# Altium footprint library WP-SMBU.PcbLib: 22 footprints (part 1 of 2)
Each footprint in its own frame and in the unit in brackets; x right, y up, seen from the top. Pads: shape width x height; smd on the part's side, far side on the other; paste and mask are expansions set on the pad; w line width, h text height; cw(c..) or ccw(c..) is an arc to the next point about the centre after c.
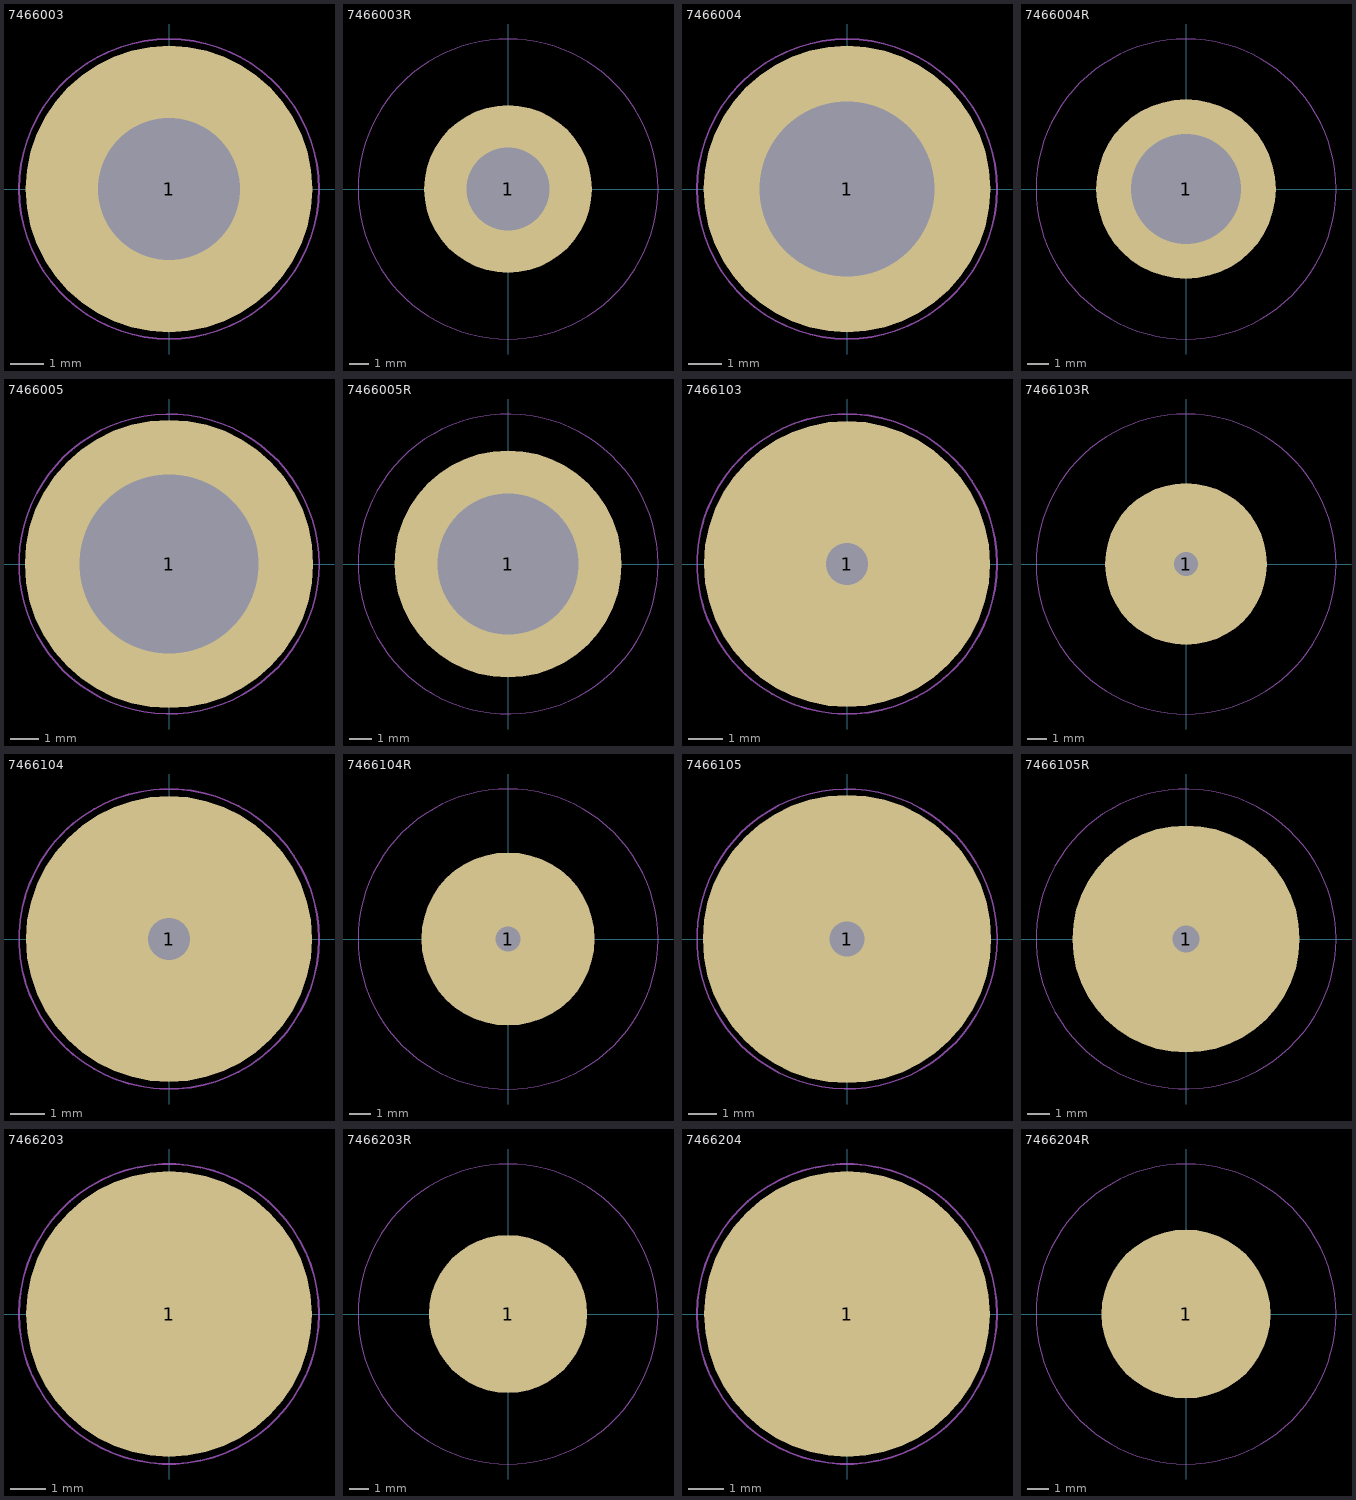
[diagram p0: the footprints below, top view; thin cyan lines are the x and y axes]

## 7466003 [mm] "SMD with internal through-hole thread, M3-6mm"
height 5
pads (1):
  round 8.5 / inner round 0 / far side round 0 hole 4.2 unplated: 1(0,0)
Top Paste:
  region: 0.5,4.119 0.5,2.193 0.501,2.193 0.654,2.153 0.948,2.04 1.224,1.888 1.476,1.698 1.699,1.475 1.888,1.223 2.041,0.947 2.153,0.653 2.194,0.5 4.12,0.5 4.092,0.728 3.986,1.176 3.832,1.61 3.63,2.023 3.384,2.412 3.097,2.771 2.771,3.097 2.412,3.384 2.023,3.63 1.61,3.832 1.176,3.986 0.728,4.092
  region: 4.119,-0.5 2.193,-0.5 2.193,-0.501 2.153,-0.654 2.04,-0.948 1.888,-1.224 1.698,-1.476 1.475,-1.699 1.223,-1.888 0.947,-2.041 0.653,-2.153 0.5,-2.194 0.5,-4.12 0.728,-4.092 1.176,-3.986 1.61,-3.832 2.023,-3.63 2.412,-3.384 2.771,-3.097 3.097,-2.771 3.384,-2.412 3.63,-2.023 3.832,-1.61 3.986,-1.176 4.092,-0.728
  region: -0.5,-4.119 -0.5,-2.193 -0.501,-2.193 -0.654,-2.153 -0.948,-2.04 -1.224,-1.888 -1.476,-1.698 -1.699,-1.475 -1.888,-1.223 -2.041,-0.947 -2.153,-0.653 -2.194,-0.5 -4.12,-0.5 -4.092,-0.728 -3.986,-1.176 -3.832,-1.61 -3.63,-2.023 -3.384,-2.412 -3.097,-2.771 -2.771,-3.097 -2.412,-3.384 -2.023,-3.63 -1.61,-3.832 -1.176,-3.986 -0.728,-4.092
  region: -4.119,0.5 -2.193,0.5 -2.193,0.501 -2.153,0.654 -2.04,0.948 -1.888,1.224 -1.698,1.476 -1.475,1.699 -1.223,1.888 -0.947,2.041 -0.653,2.153 -0.5,2.194 -0.5,4.12 -0.728,4.092 -1.176,3.986 -1.61,3.832 -2.023,3.63 -2.412,3.384 -2.771,3.097 -3.097,2.771 -3.384,2.412 -3.63,2.023 -3.832,1.61 -3.986,1.176 -4.092,0.728
Top Component Outline:
  circle w0.1: c0,0 r3.5
Top Designator:
  text ".Designator" at -3.647,-0.357 h1
Top 3D Body:
  circle w0.1: c0,0 r3.5
Top Courtyard:
  circle w0.05: c0,0 r4.45
Top Component Center:
  lines w0.1: -0.5,0 0.5,0 ; 0,-0.5 0,0.5
3D body "7466003.stp": height 5, standoff -1, extent -3.5,-3.5 3.5,3.497

## 7466003R [mm] "SMD with internal through-hole thread, M3-6mm"
height 5
pads (1):
  round 8.5 / inner round 0 / far side round 0 hole 4.2 unplated: 1(0,0)
Top Paste:
  region: -4.119,0.5 -2.193,0.5 -2.193,0.501 -2.153,0.654 -2.04,0.948 -1.888,1.224 -1.698,1.476 -1.475,1.699 -1.223,1.888 -0.947,2.041 -0.653,2.153 -0.5,2.194 -0.5,4.12 -0.728,4.092 -1.176,3.986 -1.61,3.832 -2.023,3.63 -2.412,3.384 -2.771,3.097 -3.097,2.771 -3.384,2.412 -3.63,2.023 -3.832,1.61 -3.986,1.176 -4.092,0.728
  region: -0.5,-4.119 -0.5,-2.193 -0.501,-2.193 -0.654,-2.153 -0.948,-2.04 -1.224,-1.888 -1.476,-1.698 -1.699,-1.475 -1.888,-1.223 -2.041,-0.947 -2.153,-0.653 -2.194,-0.5 -4.12,-0.5 -4.092,-0.728 -3.986,-1.176 -3.832,-1.61 -3.63,-2.023 -3.384,-2.412 -3.097,-2.771 -2.771,-3.097 -2.412,-3.384 -2.023,-3.63 -1.61,-3.832 -1.176,-3.986 -0.728,-4.092
  region: 4.119,-0.5 2.193,-0.5 2.193,-0.501 2.153,-0.654 2.04,-0.948 1.888,-1.224 1.698,-1.476 1.475,-1.699 1.223,-1.888 0.947,-2.041 0.653,-2.153 0.5,-2.194 0.5,-4.12 0.728,-4.092 1.176,-3.986 1.61,-3.832 2.023,-3.63 2.412,-3.384 2.771,-3.097 3.097,-2.771 3.384,-2.412 3.63,-2.023 3.832,-1.61 3.986,-1.176 4.092,-0.728
  region: 0.5,4.119 0.5,2.193 0.501,2.193 0.654,2.153 0.948,2.04 1.224,1.888 1.476,1.698 1.699,1.475 1.888,1.223 2.041,0.947 2.153,0.653 2.194,0.5 4.12,0.5 4.092,0.728 3.986,1.176 3.832,1.61 3.63,2.023 3.384,2.412 3.097,2.771 2.771,3.097 2.412,3.384 2.023,3.63 1.61,3.832 1.176,3.986 0.728,4.092
Top Component Outline:
  circle w0.1: c0,0 r3.5
Top Designator:
  text ".Designator" at -3.647,-0.357 h1
Top 3D Body:
  circle w0.1: c0,0 r3.5
Top Courtyard:
  circle w0.05: c0,0 r7.6
Top Component Center:
  lines w0.1: -0.5,0 0.5,0 ; 0,-0.5 0,0.5
3D body "7466003.stp": height 5, standoff -1, extent -3.5,-3.5 3.5,3.497

## 7466004 [mm] "SMD with internal through-hole thread, M4-6mm"
height 5
pads (1):
  round 8.5 / inner round 0 / far side round 0 hole 5.2 unplated: 1(0,0)
Top Paste:
  region: -4.12,0.5 -2.704,0.5 -2.704,0.501 -2.659,0.703 -2.523,1.094 -2.33,1.46 -2.085,1.793 -1.792,2.086 -1.459,2.331 -1.093,2.523 -0.702,2.659 -0.5,2.704 -0.5,4.12 -0.728,4.092 -1.176,3.986 -1.61,3.832 -2.023,3.631 -2.412,3.385 -2.772,3.097 -3.097,2.772 -3.385,2.412 -3.631,2.023 -3.832,1.61 -3.986,1.176 -4.092,0.728
  region: -0.5,-4.12 -0.5,-2.704 -0.501,-2.704 -0.703,-2.659 -1.094,-2.523 -1.46,-2.33 -1.793,-2.085 -2.086,-1.792 -2.331,-1.459 -2.523,-1.093 -2.659,-0.702 -2.704,-0.5 -4.12,-0.5 -4.092,-0.728 -3.986,-1.176 -3.832,-1.61 -3.631,-2.023 -3.385,-2.412 -3.097,-2.772 -2.772,-3.097 -2.412,-3.385 -2.023,-3.631 -1.61,-3.832 -1.176,-3.986 -0.728,-4.092
  region: 4.12,-0.5 2.704,-0.5 2.704,-0.501 2.659,-0.703 2.523,-1.094 2.33,-1.46 2.085,-1.793 1.792,-2.086 1.459,-2.331 1.093,-2.523 0.702,-2.659 0.5,-2.704 0.5,-4.12 0.728,-4.092 1.176,-3.986 1.61,-3.832 2.023,-3.631 2.412,-3.385 2.772,-3.097 3.097,-2.772 3.385,-2.412 3.631,-2.023 3.832,-1.61 3.986,-1.176 4.092,-0.728
  region: 0.5,4.12 0.5,2.704 0.501,2.704 0.703,2.659 1.094,2.523 1.46,2.33 1.793,2.085 2.086,1.792 2.331,1.459 2.523,1.093 2.659,0.702 2.704,0.5 4.12,0.5 4.092,0.728 3.986,1.176 3.832,1.61 3.631,2.023 3.385,2.412 3.097,2.772 2.772,3.097 2.412,3.385 2.023,3.631 1.61,3.832 1.176,3.986 0.728,4.092
Top Component Outline:
  circle w0.1: c0,0 r3.5
Top Designator:
  text ".Designator" at -3.647,-0.357 h1
Top 3D Body:
  circle w0.1: c0,0 r3.5
Top Courtyard:
  circle w0.05: c0,0 r4.45
Top Component Center:
  lines w0.1: -0.5,0 0.5,0 ; 0,-0.5 0,0.5
3D body "7466004.stp": height 5, standoff -1, extent -3.5,-3.493 3.473,3.493

## 7466004R [mm] "SMD with internal through-hole thread, M4-6mm"
height 5
pads (1):
  round 8.5 / inner round 0 / far side round 0 hole 5.2 unplated: 1(0,0)
Top Paste:
  region: 0.5,4.12 0.5,2.704 0.501,2.704 0.703,2.659 1.094,2.523 1.46,2.33 1.793,2.085 2.086,1.792 2.331,1.459 2.523,1.093 2.659,0.702 2.704,0.5 4.12,0.5 4.092,0.728 3.986,1.176 3.832,1.61 3.631,2.023 3.385,2.412 3.097,2.772 2.772,3.097 2.412,3.385 2.023,3.631 1.61,3.832 1.176,3.986 0.728,4.092
  region: 4.12,-0.5 2.704,-0.5 2.704,-0.501 2.659,-0.703 2.523,-1.094 2.33,-1.46 2.085,-1.793 1.792,-2.086 1.459,-2.331 1.093,-2.523 0.702,-2.659 0.5,-2.704 0.5,-4.12 0.728,-4.092 1.176,-3.986 1.61,-3.832 2.023,-3.631 2.412,-3.385 2.772,-3.097 3.097,-2.772 3.385,-2.412 3.631,-2.023 3.832,-1.61 3.986,-1.176 4.092,-0.728
  region: -0.5,-4.12 -0.5,-2.704 -0.501,-2.704 -0.703,-2.659 -1.094,-2.523 -1.46,-2.33 -1.793,-2.085 -2.086,-1.792 -2.331,-1.459 -2.523,-1.093 -2.659,-0.702 -2.704,-0.5 -4.12,-0.5 -4.092,-0.728 -3.986,-1.176 -3.832,-1.61 -3.631,-2.023 -3.385,-2.412 -3.097,-2.772 -2.772,-3.097 -2.412,-3.385 -2.023,-3.631 -1.61,-3.832 -1.176,-3.986 -0.728,-4.092
  region: -4.12,0.5 -2.704,0.5 -2.704,0.501 -2.659,0.703 -2.523,1.094 -2.33,1.46 -2.085,1.793 -1.792,2.086 -1.459,2.331 -1.093,2.523 -0.702,2.659 -0.5,2.704 -0.5,4.12 -0.728,4.092 -1.176,3.986 -1.61,3.832 -2.023,3.631 -2.412,3.385 -2.772,3.097 -3.097,2.772 -3.385,2.412 -3.631,2.023 -3.832,1.61 -3.986,1.176 -4.092,0.728
Top Component Outline:
  circle w0.1: c0,0 r3.5
Top Designator:
  text ".Designator" at -3.647,-0.357 h1
Top 3D Body:
  circle w0.1: c0,0 r3.5
Top Courtyard:
  circle w0.05: c0,0 r7.1
Top Component Center:
  lines w0.1: -0.5,0 0.5,0 ; 0,-0.5 0,0.5
3D body "7466004.stp": height 5, standoff -1, extent -3.5,-3.493 3.473,3.493

## 7466005 [mm] "SMD with internal through-hole thread, M5-6mm"
height 5
pads (1):
  round 10 / inner round 0 / far side round 0 hole 6.2 unplated: 1(0,0)
Top Paste:
  region: -4.874,0.5 -3.211,0.5 -3.211,0.502 -3.162,0.753 -3.004,1.24 -2.772,1.696 -2.471,2.111 -2.109,2.473 -1.695,2.773 -1.238,3.005 -0.751,3.162 -0.5,3.211 -0.5,4.874 -0.778,4.846 -1.323,4.726 -1.852,4.545 -2.356,4.305 -2.83,4.01 -3.267,3.662 -3.662,3.267 -4.01,2.83 -4.305,2.356 -4.545,1.852 -4.726,1.323 -4.846,0.778
  region: -0.5,-4.874 -0.5,-3.211 -0.502,-3.211 -0.753,-3.162 -1.24,-3.004 -1.696,-2.772 -2.111,-2.471 -2.473,-2.109 -2.773,-1.695 -3.005,-1.238 -3.162,-0.751 -3.211,-0.5 -4.874,-0.5 -4.846,-0.778 -4.726,-1.323 -4.545,-1.852 -4.305,-2.356 -4.01,-2.83 -3.662,-3.267 -3.267,-3.662 -2.83,-4.01 -2.356,-4.305 -1.852,-4.545 -1.323,-4.726 -0.778,-4.846
  region: 4.874,-0.5 3.211,-0.5 3.211,-0.502 3.162,-0.753 3.004,-1.24 2.772,-1.696 2.471,-2.111 2.109,-2.473 1.695,-2.773 1.238,-3.005 0.751,-3.162 0.5,-3.211 0.5,-4.874 0.778,-4.846 1.323,-4.726 1.852,-4.545 2.356,-4.305 2.83,-4.01 3.267,-3.662 3.662,-3.267 4.01,-2.83 4.305,-2.356 4.545,-1.852 4.726,-1.323 4.846,-0.778
  region: 0.5,4.874 0.5,3.211 0.502,3.211 0.753,3.162 1.24,3.004 1.696,2.772 2.111,2.471 2.473,2.109 2.773,1.695 3.005,1.238 3.162,0.751 3.211,0.5 4.874,0.5 4.846,0.778 4.726,1.323 4.545,1.852 4.305,2.356 4.01,2.83 3.662,3.267 3.267,3.662 2.83,4.01 2.356,4.305 1.852,4.545 1.323,4.726 0.778,4.846
Top Component Outline:
  circle w0.1: c0,0 r4.5
Top Designator:
  text ".Designator" at -3.647,-0.357 h1
Top 3D Body:
  circle w0.1: c0,0 r4.5
Top Courtyard:
  circle w0.05: c0,0 r5.2
Top Component Center:
  lines w0.1: -0.5,0 0.5,0 ; 0,-0.5 0,0.5
3D body "7466005.stp": height 5, standoff -1, extent -4.5,-4.491 4.465,4.491

## 7466005R [mm] "SMD with internal through-hole thread, M5-6mm"
height 5
pads (1):
  round 10 / inner round 0 / far side round 0 hole 6.2 unplated: 1(0,0)
Top Paste:
  region: -4.874,0.5 -3.211,0.5 -3.211,0.502 -3.162,0.753 -3.004,1.24 -2.772,1.696 -2.471,2.111 -2.109,2.473 -1.695,2.773 -1.238,3.005 -0.751,3.162 -0.5,3.211 -0.5,4.874 -0.778,4.846 -1.323,4.726 -1.852,4.545 -2.356,4.305 -2.83,4.01 -3.267,3.662 -3.662,3.267 -4.01,2.83 -4.305,2.356 -4.545,1.852 -4.726,1.323 -4.846,0.778
  region: -0.5,-4.874 -0.5,-3.211 -0.502,-3.211 -0.753,-3.162 -1.24,-3.004 -1.696,-2.772 -2.111,-2.471 -2.473,-2.109 -2.773,-1.695 -3.005,-1.238 -3.162,-0.751 -3.211,-0.5 -4.874,-0.5 -4.846,-0.778 -4.726,-1.323 -4.545,-1.852 -4.305,-2.356 -4.01,-2.83 -3.662,-3.267 -3.267,-3.662 -2.83,-4.01 -2.356,-4.305 -1.852,-4.545 -1.323,-4.726 -0.778,-4.846
  region: 4.874,-0.5 3.211,-0.5 3.211,-0.502 3.162,-0.753 3.004,-1.24 2.772,-1.696 2.471,-2.111 2.109,-2.473 1.695,-2.773 1.238,-3.005 0.751,-3.162 0.5,-3.211 0.5,-4.874 0.778,-4.846 1.323,-4.726 1.852,-4.545 2.356,-4.305 2.83,-4.01 3.267,-3.662 3.662,-3.267 4.01,-2.83 4.305,-2.356 4.545,-1.852 4.726,-1.323 4.846,-0.778
  region: 0.5,4.874 0.5,3.211 0.502,3.211 0.753,3.162 1.24,3.004 1.696,2.772 2.111,2.471 2.473,2.109 2.773,1.695 3.005,1.238 3.162,0.751 3.211,0.5 4.874,0.5 4.846,0.778 4.726,1.323 4.545,1.852 4.305,2.356 4.01,2.83 3.662,3.267 3.267,3.662 2.83,4.01 2.356,4.305 1.852,4.545 1.323,4.726 0.778,4.846
Top Component Outline:
  circle w0.1: c0,0 r4.5
Top Designator:
  text ".Designator" at -3.647,-0.357 h1
Top 3D Body:
  circle w0.1: c0,0 r4.5
Top Courtyard:
  circle w0.05: c0,0 r6.6
Top Component Center:
  lines w0.1: -0.5,0 0.5,0 ; 0,-0.5 0,0.5
3D body "7466005.stp": height 5, standoff -1, extent -4.5,-4.491 4.465,4.491

## 7466103 [mm] "SMD with internal blind-hole thread with Pin, M3 - 4 mm"
height 7
pads (1):
  round 8.2 / inner round 0 / far side round 0 hole 1.2 unplated: 1(0,0)
Top Paste:
  region: 0.5,3.969 0.739,3.938 1.207,3.821 1.658,3.648 2.084,3.423 2.48,3.147 2.84,2.827 3.16,2.465 3.433,2.067 3.656,1.64 3.827,1.189 3.942,0.72 4,0.241 4,0 4,-0.241 3.942,-0.72 3.827,-1.189 3.656,-1.64 3.433,-2.067 3.16,-2.465 2.84,-2.827 2.48,-3.147 2.084,-3.423 1.658,-3.648 1.207,-3.821 0.739,-3.938 0.5,-3.969 0.5,-0.56 0.5,-0.559 0.556,-0.504 0.649,-0.377 0.713,-0.233 0.746,-0.079 0.75,0 0.746,0.079 0.713,0.233 0.649,0.377 0.556,0.504 0.5,0.559 0.5,0.56
  region: -0.5,-3.969 -0.739,-3.938 -1.207,-3.821 -1.658,-3.648 -2.084,-3.423 -2.48,-3.147 -2.84,-2.827 -3.16,-2.465 -3.433,-2.067 -3.656,-1.64 -3.827,-1.189 -3.942,-0.72 -4,-0.241 -4,0 -4,0.241 -3.942,0.72 -3.827,1.189 -3.656,1.64 -3.433,2.067 -3.16,2.465 -2.84,2.827 -2.48,3.147 -2.084,3.423 -1.658,3.648 -1.207,3.821 -0.739,3.938 -0.5,3.969 -0.5,0.56 -0.5,0.559 -0.556,0.504 -0.649,0.377 -0.713,0.233 -0.746,0.079 -0.75,0 -0.746,-0.079 -0.713,-0.233 -0.649,-0.377 -0.556,-0.504 -0.5,-0.559 -0.5,-0.56
Top Component Outline:
  circle w0.1: c0,0 r3.5
Top Designator:
  text ".Designator" at -3.647,-0.357 h1
Top 3D Body:
  circle w0.1: c0,0 r3.5
Top Courtyard:
  circle w0.05: c0,0 r4.3
Top Component Center:
  lines w0.1: -0.5,0 0.5,0 ; 0,-0.5 0,0.5
3D body "7466103.stp": height 7, standoff -0.8, extent -3.5,-3.497 3.5,3.497

## 7466103R [mm] "SMD with internal blind-hole thread with Pin, M3 - 4 mm"
height 7
pads (1):
  round 8.2 / inner round 0 / far side round 0 hole 1.2 unplated: 1(0,0)
Top Paste:
  region: 0.5,3.969 0.739,3.938 1.207,3.821 1.658,3.648 2.084,3.423 2.48,3.147 2.84,2.827 3.16,2.465 3.433,2.067 3.656,1.64 3.827,1.189 3.942,0.72 4,0.241 4,0 4,-0.241 3.942,-0.72 3.827,-1.189 3.656,-1.64 3.433,-2.067 3.16,-2.465 2.84,-2.827 2.48,-3.147 2.084,-3.423 1.658,-3.648 1.207,-3.821 0.739,-3.938 0.5,-3.969 0.5,-0.56 0.5,-0.559 0.556,-0.504 0.649,-0.377 0.713,-0.233 0.746,-0.079 0.75,0 0.746,0.079 0.713,0.233 0.649,0.377 0.556,0.504 0.5,0.559 0.5,0.56
  region: -0.5,-3.969 -0.739,-3.938 -1.207,-3.821 -1.658,-3.648 -2.084,-3.423 -2.48,-3.147 -2.84,-2.827 -3.16,-2.465 -3.433,-2.067 -3.656,-1.64 -3.827,-1.189 -3.942,-0.72 -4,-0.241 -4,0 -4,0.241 -3.942,0.72 -3.827,1.189 -3.656,1.64 -3.433,2.067 -3.16,2.465 -2.84,2.827 -2.48,3.147 -2.084,3.423 -1.658,3.648 -1.207,3.821 -0.739,3.938 -0.5,3.969 -0.5,0.56 -0.5,0.559 -0.556,0.504 -0.649,0.377 -0.713,0.233 -0.746,0.079 -0.75,0 -0.746,-0.079 -0.713,-0.233 -0.649,-0.377 -0.556,-0.504 -0.5,-0.559 -0.5,-0.56
Top Component Outline:
  circle w0.1: c0,0 r3.5
Top Designator:
  text ".Designator" at -3.647,-0.357 h1
Top 3D Body:
  circle w0.1: c0,0 r3.5
Top Courtyard:
  circle w0.05: c0,0 r7.6
Top Component Center:
  lines w0.1: -0.5,0 0.5,0 ; 0,-0.5 0,0.5
3D body "7466103.stp": height 7, standoff -0.8, extent -3.5,-3.497 3.5,3.497

## 7466104 [mm] "SMD with internal blind-hole thread with Pin, M4 - 4 mm"
height 7
pads (1):
  round 8.2 / inner round 0 / far side round 0 hole 1.2 unplated: 1(0,0)
Top Paste:
  region: 0.5,3.969 0.739,3.938 1.207,3.821 1.658,3.648 2.084,3.423 2.48,3.147 2.84,2.827 3.16,2.465 3.433,2.067 3.656,1.64 3.827,1.189 3.942,0.72 4,0.241 4,0 4,-0.241 3.942,-0.72 3.827,-1.189 3.656,-1.64 3.433,-2.067 3.16,-2.465 2.84,-2.827 2.48,-3.147 2.084,-3.423 1.658,-3.648 1.207,-3.821 0.739,-3.938 0.5,-3.969 0.5,-0.56 0.5,-0.559 0.556,-0.504 0.649,-0.377 0.713,-0.233 0.746,-0.079 0.75,0 0.746,0.079 0.713,0.233 0.649,0.377 0.556,0.504 0.5,0.559 0.5,0.56
  region: -0.5,-3.969 -0.739,-3.938 -1.207,-3.821 -1.658,-3.648 -2.084,-3.423 -2.48,-3.147 -2.84,-2.827 -3.16,-2.465 -3.433,-2.067 -3.656,-1.64 -3.827,-1.189 -3.942,-0.72 -4,-0.241 -4,0 -4,0.241 -3.942,0.72 -3.827,1.189 -3.656,1.64 -3.433,2.067 -3.16,2.465 -2.84,2.827 -2.48,3.147 -2.084,3.423 -1.658,3.648 -1.207,3.821 -0.739,3.938 -0.5,3.969 -0.5,0.56 -0.5,0.559 -0.556,0.504 -0.649,0.377 -0.713,0.233 -0.746,0.079 -0.75,0 -0.746,-0.079 -0.713,-0.233 -0.649,-0.377 -0.556,-0.504 -0.5,-0.559 -0.5,-0.56
Top Component Outline:
  circle w0.1: c0,0 r3.5
Top Designator:
  text ".Designator" at -3.647,-0.357 h1
Top 3D Body:
  circle w0.1: c0,0 r3.5
Top Courtyard:
  circle w0.05: c0,0 r4.3
Top Component Center:
  lines w0.1: -0.5,0 0.5,0 ; 0,-0.5 0,0.5
3D body "7466104.stp": height 7, standoff -0.8, extent -3.5,-3.5 3.5,3.5

## 7466104R [mm] "SMD with internal blind-hole thread with Pin, M4 - 4 mm"
height 7
pads (1):
  round 8.2 / inner round 0 / far side round 0 hole 1.2 unplated: 1(0,0)
Top Paste:
  region: -0.5,-3.969 -0.739,-3.938 -1.207,-3.821 -1.658,-3.648 -2.084,-3.423 -2.48,-3.147 -2.84,-2.827 -3.16,-2.465 -3.433,-2.067 -3.656,-1.64 -3.827,-1.189 -3.942,-0.72 -4,-0.241 -4,0 -4,0.241 -3.942,0.72 -3.827,1.189 -3.656,1.64 -3.433,2.067 -3.16,2.465 -2.84,2.827 -2.48,3.147 -2.084,3.423 -1.658,3.648 -1.207,3.821 -0.739,3.938 -0.5,3.969 -0.5,0.56 -0.5,0.559 -0.556,0.504 -0.649,0.377 -0.713,0.233 -0.746,0.079 -0.75,0 -0.746,-0.079 -0.713,-0.233 -0.649,-0.377 -0.556,-0.504 -0.5,-0.559 -0.5,-0.56
  region: 0.5,3.969 0.739,3.938 1.207,3.821 1.658,3.648 2.084,3.423 2.48,3.147 2.84,2.827 3.16,2.465 3.433,2.067 3.656,1.64 3.827,1.189 3.942,0.72 4,0.241 4,0 4,-0.241 3.942,-0.72 3.827,-1.189 3.656,-1.64 3.433,-2.067 3.16,-2.465 2.84,-2.827 2.48,-3.147 2.084,-3.423 1.658,-3.648 1.207,-3.821 0.739,-3.938 0.5,-3.969 0.5,-0.56 0.5,-0.559 0.556,-0.504 0.649,-0.377 0.713,-0.233 0.746,-0.079 0.75,0 0.746,0.079 0.713,0.233 0.649,0.377 0.556,0.504 0.5,0.559 0.5,0.56
Top Component Outline:
  circle w0.1: c0,0 r3.5
Top Designator:
  text ".Designator" at -3.647,-0.357 h1
Top 3D Body:
  circle w0.1: c0,0 r3.5
Top Courtyard:
  circle w0.05: c0,0 r7.1
Top Component Center:
  lines w0.1: -0.5,0 0.5,0 ; 0,-0.5 0,0.5
3D body "7466104.stp": height 7, standoff -0.8, extent -3.5,-3.5 3.5,3.5

## 7466105 [mm] "SMD with internal blind-hole thread with Pin, M5 - 4 mm"
height 7
pads (1):
  round 10 / inner round 0 / far side round 0 hole 1.2 unplated: 1(0,0)
Top Paste:
  region: -0.75,-4.842 -1.094,-4.789 -1.759,-4.587 -2.389,-4.292 -2.972,-3.912 -3.494,-3.453 -3.947,-2.925 -4.32,-2.338 -4.607,-1.704 -4.802,-1.036 -4.9,-0.348 -4.9,0.348 -4.802,1.036 -4.607,1.704 -4.32,2.338 -3.947,2.925 -3.494,3.453 -2.972,3.912 -2.389,4.292 -1.759,4.587 -1.094,4.789 -0.75,4.842
  region: 0.75,4.842 1.094,4.789 1.759,4.587 2.389,4.292 2.972,3.912 3.494,3.453 3.947,2.925 4.32,2.338 4.607,1.704 4.802,1.036 4.9,0.348 4.9,-0.348 4.802,-1.036 4.607,-1.704 4.32,-2.338 3.947,-2.925 3.494,-3.453 2.972,-3.912 2.389,-4.292 1.759,-4.587 1.094,-4.789 0.75,-4.842
Top Component Outline:
  circle w0.1: c0,0 r4.5
Top Designator:
  text ".Designator" at -3.647,-0.357 h1
Top 3D Body:
  circle w0.1: c0,0 r4.5
Top Courtyard:
  circle w0.05: c0,0 r5.2
Top Component Center:
  lines w0.1: -0.5,0 0.5,0 ; 0,-0.5 0,0.5
3D body "7466105.stp": height 7, standoff -0.8, extent -4.5,-4.499 4.5,4.499

## 7466105R [mm] "SMD with internal blind-hole thread with Pin, M5 - 4 mm"
height 7
pads (1):
  round 10 / inner round 0 / far side round 0 hole 1.2 unplated: 1(0,0)
Top Paste:
  region: -0.75,-4.842 -1.094,-4.789 -1.759,-4.587 -2.389,-4.292 -2.972,-3.912 -3.494,-3.453 -3.947,-2.925 -4.32,-2.338 -4.607,-1.704 -4.802,-1.036 -4.9,-0.348 -4.9,0.348 -4.802,1.036 -4.607,1.704 -4.32,2.338 -3.947,2.925 -3.494,3.453 -2.972,3.912 -2.389,4.292 -1.759,4.587 -1.094,4.789 -0.75,4.842
  region: 0.75,4.842 1.094,4.789 1.759,4.587 2.389,4.292 2.972,3.912 3.494,3.453 3.947,2.925 4.32,2.338 4.607,1.704 4.802,1.036 4.9,0.348 4.9,-0.348 4.802,-1.036 4.607,-1.704 4.32,-2.338 3.947,-2.925 3.494,-3.453 2.972,-3.912 2.389,-4.292 1.759,-4.587 1.094,-4.789 0.75,-4.842
Top Component Outline:
  circle w0.1: c0,0 r4.5
Top Designator:
  text ".Designator" at -3.647,-0.357 h1
Top 3D Body:
  circle w0.1: c0,0 r4.5
Top Courtyard:
  circle w0.05: c0,0 r6.6
Top Component Center:
  lines w0.1: -0.5,0 0.5,0 ; 0,-0.5 0,0.5
3D body "7466105.stp": height 7, standoff -0.8, extent -4.5,-4.499 4.5,4.499

## 7466203 [mm] "SMD with internal blind-hole thread, M3 - 4 mm"
height 7
pads (1):
  round 8 smd paste-403.566: 1(0,0)
Top Paste:
  region: -3.868,0.5 -3.84,0.712 -3.74,1.127 -3.594,1.529 -3.405,1.913 -3.176,2.273 -2.909,2.607 -2.607,2.909 -2.273,3.176 -1.913,3.406 -1.529,3.594 -1.127,3.74 -0.712,3.84 -0.5,3.868 -0.5,0.5
  region: -0.5,-3.868 -0.712,-3.84 -1.127,-3.74 -1.529,-3.594 -1.913,-3.405 -2.273,-3.176 -2.607,-2.909 -2.909,-2.607 -3.176,-2.273 -3.406,-1.913 -3.594,-1.529 -3.74,-1.127 -3.84,-0.712 -3.868,-0.5 -0.5,-0.5
  region: 3.868,-0.5 3.84,-0.712 3.74,-1.127 3.594,-1.529 3.405,-1.913 3.176,-2.273 2.909,-2.607 2.607,-2.909 2.273,-3.176 1.913,-3.406 1.529,-3.594 1.127,-3.74 0.712,-3.84 0.5,-3.868 0.5,-0.5
  region: 0.5,3.868 0.712,3.84 1.127,3.74 1.529,3.594 1.913,3.405 2.273,3.176 2.607,2.909 2.909,2.607 3.176,2.273 3.406,1.913 3.594,1.529 3.74,1.127 3.84,0.712 3.868,0.5 0.5,0.5
Top Component Outline:
  circle w0.1: c0,0 r3.5
Top Designator:
  text ".Designator" at -3.647,-0.357 h1
Top 3D Body:
  circle w0.1: c0,0 r3.5
Top Courtyard:
  circle w0.05: c0,0 r4.2
Top Component Center:
  lines w0.1: -0.5,0 0.5,0 ; 0,-0.5 0,0.5
3D body "7466203.stp": height 7, standoff 0, extent -3.5,-3.499 3.5,3.499

## 7466203R [mm] "SMD with internal blind-hole thread, M3 - 4 mm"
height 7
pads (1):
  round 8 smd paste-403.566: 1(0,0)
Top Paste:
  region: 0.5,3.868 0.712,3.84 1.127,3.74 1.529,3.594 1.913,3.405 2.273,3.176 2.607,2.909 2.909,2.607 3.176,2.273 3.406,1.913 3.594,1.529 3.74,1.127 3.84,0.712 3.868,0.5 0.5,0.5
  region: 3.868,-0.5 3.84,-0.712 3.74,-1.127 3.594,-1.529 3.405,-1.913 3.176,-2.273 2.909,-2.607 2.607,-2.909 2.273,-3.176 1.913,-3.406 1.529,-3.594 1.127,-3.74 0.712,-3.84 0.5,-3.868 0.5,-0.5
  region: -0.5,-3.868 -0.712,-3.84 -1.127,-3.74 -1.529,-3.594 -1.913,-3.405 -2.273,-3.176 -2.607,-2.909 -2.909,-2.607 -3.176,-2.273 -3.406,-1.913 -3.594,-1.529 -3.74,-1.127 -3.84,-0.712 -3.868,-0.5 -0.5,-0.5
  region: -3.868,0.5 -3.84,0.712 -3.74,1.127 -3.594,1.529 -3.405,1.913 -3.176,2.273 -2.909,2.607 -2.607,2.909 -2.273,3.176 -1.913,3.406 -1.529,3.594 -1.127,3.74 -0.712,3.84 -0.5,3.868 -0.5,0.5
Top Component Outline:
  circle w0.1: c0,0 r3.5
Top Designator:
  text ".Designator" at -3.647,-0.357 h1
Top 3D Body:
  circle w0.1: c0,0 r3.5
Top Courtyard:
  circle w0.05: c0,0 r7.6
Top Component Center:
  lines w0.1: -0.5,0 0.5,0 ; 0,-0.5 0,0.5
3D body "7466203.stp": height 7, standoff 0, extent -3.5,-3.499 3.5,3.499

## 7466204 [mm] "SMD with internal blind-hole thread, M4 - 4 mm"
height 7
pads (1):
  round 8 smd paste-403.566: 1(0,0)
Top Paste:
  region: 0.5,3.868 0.712,3.84 1.127,3.74 1.529,3.594 1.913,3.405 2.273,3.176 2.607,2.909 2.909,2.607 3.176,2.273 3.406,1.913 3.594,1.529 3.74,1.127 3.84,0.712 3.868,0.5 0.5,0.5
  region: 3.868,-0.5 3.84,-0.712 3.74,-1.127 3.594,-1.529 3.405,-1.913 3.176,-2.273 2.909,-2.607 2.607,-2.909 2.273,-3.176 1.913,-3.406 1.529,-3.594 1.127,-3.74 0.712,-3.84 0.5,-3.868 0.5,-0.5
  region: -0.5,-3.868 -0.712,-3.84 -1.127,-3.74 -1.529,-3.594 -1.913,-3.405 -2.273,-3.176 -2.607,-2.909 -2.909,-2.607 -3.176,-2.273 -3.406,-1.913 -3.594,-1.529 -3.74,-1.127 -3.84,-0.712 -3.868,-0.5 -0.5,-0.5
  region: -3.868,0.5 -3.84,0.712 -3.74,1.127 -3.594,1.529 -3.405,1.913 -3.176,2.273 -2.909,2.607 -2.607,2.909 -2.273,3.176 -1.913,3.406 -1.529,3.594 -1.127,3.74 -0.712,3.84 -0.5,3.868 -0.5,0.5
Top Component Outline:
  circle w0.1: c0,0 r3.5
Top Designator:
  text ".Designator" at -3.647,-0.357 h1
Top 3D Body:
  circle w0.1: c0,0 r3.5
Top Courtyard:
  circle w0.05: c0,0 r4.2
Top Component Center:
  lines w0.1: -0.5,0 0.5,0 ; 0,-0.5 0,0.5
3D body "7466204.stp": height 7, standoff 0, extent -3.5,-3.499 3.5,3.499

## 7466204R [mm] "SMD with internal blind-hole thread, M4 - 4 mm"
height 7
pads (1):
  round 8 smd paste-403.566: 1(0,0)
Top Paste:
  region: -3.868,0.5 -3.84,0.712 -3.74,1.127 -3.594,1.529 -3.405,1.913 -3.176,2.273 -2.909,2.607 -2.607,2.909 -2.273,3.176 -1.913,3.406 -1.529,3.594 -1.127,3.74 -0.712,3.84 -0.5,3.868 -0.5,0.5
  region: -0.5,-3.868 -0.712,-3.84 -1.127,-3.74 -1.529,-3.594 -1.913,-3.405 -2.273,-3.176 -2.607,-2.909 -2.909,-2.607 -3.176,-2.273 -3.406,-1.913 -3.594,-1.529 -3.74,-1.127 -3.84,-0.712 -3.868,-0.5 -0.5,-0.5
  region: 3.868,-0.5 3.84,-0.712 3.74,-1.127 3.594,-1.529 3.405,-1.913 3.176,-2.273 2.909,-2.607 2.607,-2.909 2.273,-3.176 1.913,-3.406 1.529,-3.594 1.127,-3.74 0.712,-3.84 0.5,-3.868 0.5,-0.5
  region: 0.5,3.868 0.712,3.84 1.127,3.74 1.529,3.594 1.913,3.405 2.273,3.176 2.607,2.909 2.909,2.607 3.176,2.273 3.406,1.913 3.594,1.529 3.74,1.127 3.84,0.712 3.868,0.5 0.5,0.5
Top Component Outline:
  circle w0.1: c0,0 r3.5
Top Designator:
  text ".Designator" at -3.647,-0.357 h1
Top 3D Body:
  circle w0.1: c0,0 r3.5
Top Courtyard:
  circle w0.05: c0,0 r7.1
Top Component Center:
  lines w0.1: -0.5,0 0.5,0 ; 0,-0.5 0,0.5
3D body "7466204.stp": height 7, standoff 0, extent -3.5,-3.499 3.5,3.499